# EAGLE library part MPU9250 (library SobieskiSat2)
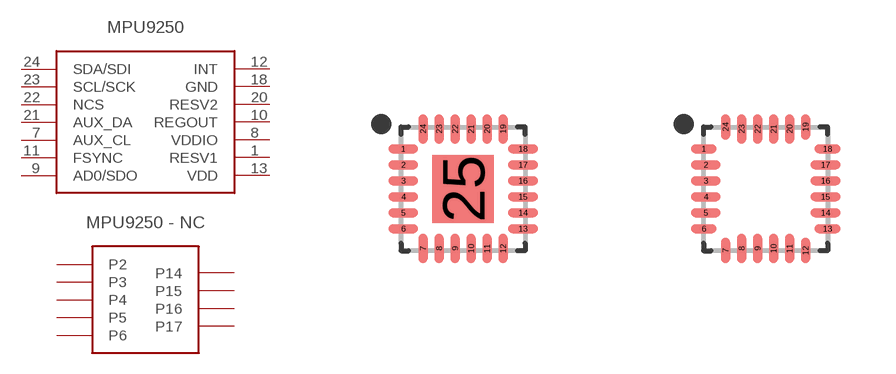
[diagram p8: symbol with the pads of QFN40P300X300X105-25T170X154N; footprints QFN40P300X300X105-25T170X154N, MPU9250]

Designator prefix -; gates G$1=MPU9250 G$2=MPU9250-NC

## MPU9250  [QFN40P300X300X105-25T170X154N]
1  G$1:RESV1
7  G$1:AUX_CL
8  G$1:VDDIO
9  G$1:AD0/SDO
10  G$1:REGOUT
11  G$1:FSYNC
12  G$1:INT
13  G$1:VDD
18  G$1:GND
20  G$1:RESV2
21  G$1:AUX_DA
22  G$1:NCS
23  G$1:SCL/SCK
24  G$1:SDA/SDI

## MPU9250USR  [MPU9250]
1  G$1:RESV1
2  G$2:P2
3  G$2:P3
4  G$2:P4
5  G$2:P5
6  G$2:P6
7  G$1:AUX_CL
8  G$1:VDDIO
9  G$1:AD0/SDO
10  G$1:REGOUT
11  G$1:FSYNC
12  G$1:INT
13  G$1:VDD
14  G$2:P14
15  G$2:P15
16  G$2:P16
17  G$2:P17
18  G$1:GND
20  G$1:RESV2
21  G$1:AUX_DA
22  G$1:NCS
23  G$1:SCL/SCK
24  G$1:SDA/SDI

## Footprint QFN40P300X300X105-25T170X154N (pad centres in mm)
24-QFN, 0.40 mm pitch, 3.00 X 3.00 X 1.05 mm body, 1.70 X 1.54 mm thermal pad 24-pin QFN package with 0.40 mm pitch with body size 3.00 X 3.00 X 1.05 mm and thermal pad size 1.70 X 1.54 mm
smd 0.738 x 0.22: 1 -1.496,1; 2 -1.496,0.6; 3 -1.496,0.2; 4 -1.496,-0.2; 5 -1.496,-0.6; 6 -1.496,-1; 13 1.496,-1; 14 1.496,-0.6; 15 1.496,-0.2; 16 1.496,0.2; 17 1.496,0.6; 18 1.496,1
smd 0.22 x 0.738: 7 -1,-1.496; 8 -0.6,-1.496; 9 -0.2,-1.496; 10 0.2,-1.496; 11 0.6,-1.496; 12 1,-1.496; 19 1,1.496; 20 0.6,1.496; 21 0.2,1.496; 22 -0.2,1.496; 23 -0.6,1.496; 24 -1,1.496
smd 1.54 x 1.7: 25 0,0

## Footprint MPU9250 (pad centres in mm)
24-QFN, 0.40 mm pitch, 3.00 X 3.00 X 1.05 mm body, 1.70 X 1.54 mm thermal pad 24-pin QFN package with 0.40 mm pitch with body size 3.00 X 3.00 X 1.05 mm and thermal pad size 1.70 X 1.54 mm
smd 0.638 x 0.22: 1 -1.546,1; 6 -1.546,-1; 13 1.546,-1; 18 1.546,1
smd 0.738 x 0.22: 2 -1.496,0.6; 3 -1.496,0.2; 4 -1.496,-0.2; 5 -1.496,-0.6; 14 1.496,-0.6; 15 1.496,-0.2; 16 1.496,0.2; 17 1.496,0.6
smd 0.22 x 0.638: 7 -1,-1.546; 12 1,-1.546; 19 1,1.546; 24 -1,1.546
smd 0.22 x 0.738: 8 -0.6,-1.496; 9 -0.2,-1.496; 10 0.2,-1.496; 11 0.6,-1.496; 20 0.6,1.496; 21 0.2,1.496; 22 -0.2,1.496; 23 -0.6,1.496